# EAGLE library part PARALLEL_BUS_INTERFACE_DEVICE (library atari)
Parallel Bus Interface Device (25/50 Card Edge Connector)
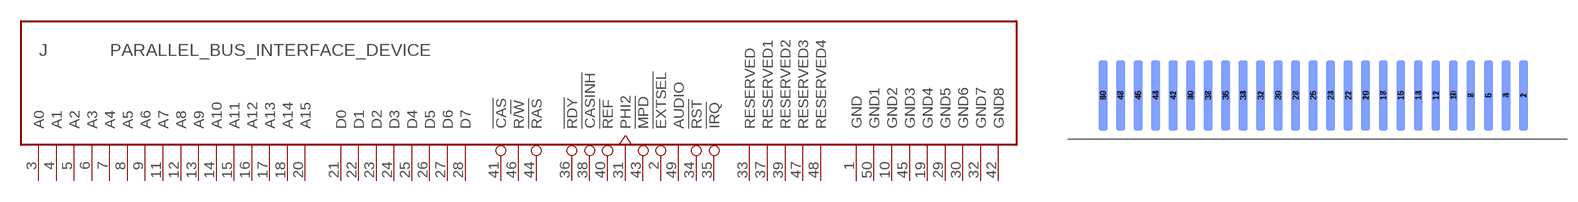
[diagram p29: symbol with the pads of PARALLEL_BUS_INTERFACE_DEVICE; footprint PARALLEL_BUS_INTERFACE_DEVICE]

Designator prefix J

## PARALLEL_BUS_INTERFACE_DEVICE  [PARALLEL_BUS_INTERFACE_DEVICE]
1  GND  pwr
2  !EXTSEL  out
3  A0  out
4  A1  out
5  A2  out
6  A3  out
7  A4  out
8  A5  out
9  A6  out
10  GND2  pwr
11  A7  out
12  A8  out
13  A9  out
14  A10  out
15  A11  out
16  A12  out
17  A13  out
18  A14  out
19  GND4  pwr
20  A15  out
21  D0
22  D1
23  D2
24  D3
25  D4
26  D5
27  D6
28  D7
29  GND5  pwr
30  GND6  pwr
31  PHI2  out
32  GND7  pwr
33  RESERVED
34  !RST  out
35  !IRQ  in
36  !RDY  out
37  RESERVED1
38  !CASINH  out
39  RESERVED2
40  !REF  out
41  !CAS  out
42  GND8  pwr
43  !MPD  in
44  !RAS  out
45  GND3  pwr
46  R/!W  out
47  RESERVED3
48  RESERVED4
49  AUDIO  in
50  GND1  pwr

## Footprint PARALLEL_BUS_INTERFACE_DEVICE (pad centres in mm)
Card Edge Connector 25/50
smd 1.27 x 10.16: 1 40.64,1.27; 3 38.1,1.27; 5 35.56,1.27; 7 33.02,1.27; 9 30.48,1.27; 11 27.94,1.27; 13 25.4,1.27; 15 22.86,1.27; 17 20.32,1.27; 19 17.78,1.27; 21 15.24,1.27; 23 12.7,1.27; 25 10.16,1.27; 27 7.62,1.27; 29 5.08,1.27; 31 2.54,1.27; 33 0,1.27; 35 -2.54,1.27; 37 -5.08,1.27; 39 -7.62,1.27; 41 -10.16,1.27; 43 -12.7,1.27; 45 -15.24,1.27; 47 -17.78,1.27; 49 -20.32,1.27
smd 1.27 x 10.16 bottom: 2 40.64,1.27; 4 38.1,1.27; 6 35.56,1.27; 8 33.02,1.27; 10 30.48,1.27; 12 27.94,1.27; 14 25.4,1.27; 16 22.86,1.27; 18 20.32,1.27; 20 17.78,1.27; 22 15.24,1.27; 24 12.7,1.27; 26 10.16,1.27; 28 7.62,1.27; 30 5.08,1.27; 32 2.54,1.27; 34 0,1.27; 36 -2.54,1.27; 38 -5.08,1.27; 40 -7.62,1.27; 42 -10.16,1.27; 44 -12.7,1.27; 46 -15.24,1.27; 48 -17.78,1.27; 50 -20.32,1.27